# EAGLE library part HDC1000YPAR (library weather_station)
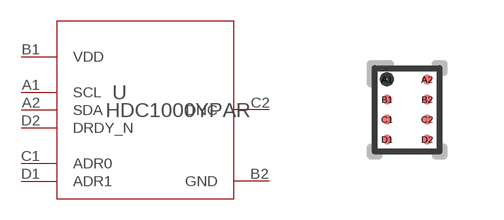
[diagram p8: symbol with the pads of YPA0008AGAE; footprint YPA0008AGAE]

Designator prefix U

## HDC1000YPAR (ALTERNATEPARTNUMBER: HDC1000YPAT; COMPTYPE: IC; MANUFACTURER: Texas Instruments; MOUNTTYPE: SMT; PACKAGEREFERENCE: YPA0008AGAE; PARTNUMBER: HDC1000YPAR; PIN_COUNT: 8; REFDES: RefDes; ROHS: Y; TYPE: TYPE; VALUE: Value)  [YPA0008AGAE]
A1  SCL  in
A2  SDA
B1  VDD  pwr
B2  GND  pwr
C1  ADR0  in
C2  DNC  pas
D1  ADR1  in
D2  DRDY_N  in

## Footprint YPA0008AGAE (pad centres in mm)
smd 0.254 x 0.254: A1 -0.5,0.75; A2 0.5,0.75; B1 -0.5,0.25; B2 0.5,0.25; C1 -0.5,-0.25; C2 0.5,-0.25; D1 -0.5,-0.75; D2 0.5,-0.75